# EAGLE library part CONN_2X03_COL (library GPLIB_CONN)
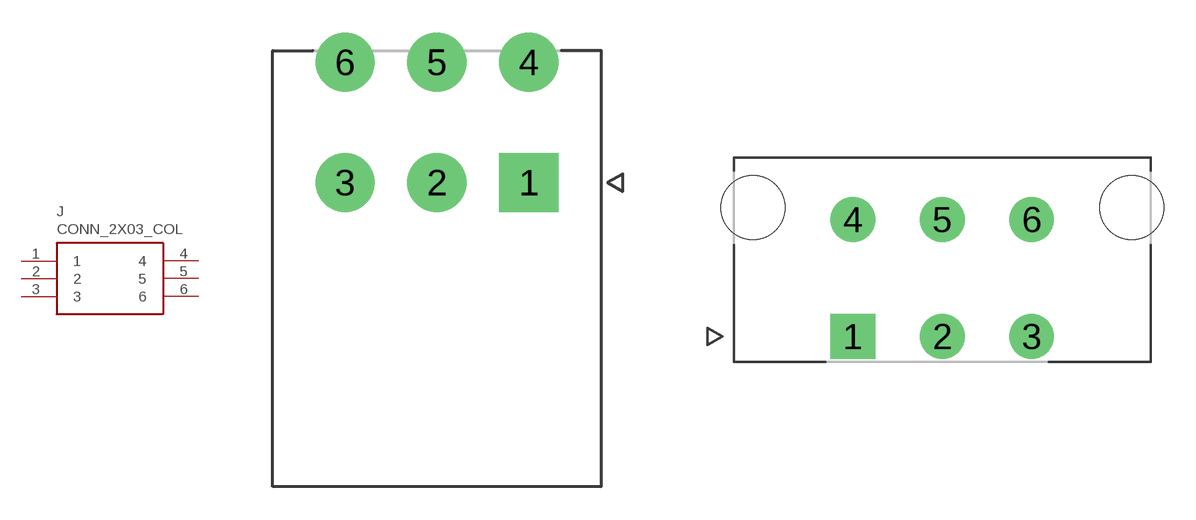
[diagram p47: symbol with the pads of CONN_2X03_4.2MM_RA_TH_MX_874270602; footprints CONN_2X03_4.2MM_RA_TH_MX_874270602, CONN_2X03_4.2MM_TH_ST_MX_15247064]

Designator prefix J

## CONN_2X03_COL_4.2MM_TH_RA_MX_87427-0602  [CONN_2X03_4.2MM_RA_TH_MX_874270602]
1  1  pas
2  2  pas
3  3  pas
4  4  pas
5  5  pas
6  6  pas

## CONN_2X03_COL_4.2MM_TH_ST_MX_15247064  [CONN_2X03_4.2MM_TH_ST_MX_15247064]
Pads as for CONN_2X03_4.2MM_RA_TH_MX_874270602

## Footprint CONN_2X03_4.2MM_RA_TH_MX_874270602 (pad centres in mm)
drill 1.8 pad 2.3 square: 1 0,0
drill 1.8 pad 2.3: 2 -4.2,0; 3 -8.4,0; 4 0,5.5; 5 -4.2,5.5; 6 -8.4,5.5

## Footprint CONN_2X03_4.2MM_TH_ST_MX_15247064 (pad centres in mm)
drill 1.4 pad 1.9 square: 1 0,0
drill 1.4 pad 1.9: 2 4.2,0; 3 8.4,0; 4 0,5.5; 5 4.2,5.5; 6 8.4,5.5
hole 3 at -4.7,6.06
hole 3 at 13.1,6.06